# Altium footprint library WE-PPTI Push-Pull Transformers.PCBLIB: 2 footprints
Each footprint in its own frame and in the unit in brackets; x right, y up, seen from the top. Pads: shape width x height; smd on the part's side, far side on the other; paste and mask are expansions set on the pad; w line width, h text height; cw(c..) or ccw(c..) is an arc to the next point about the centre after c.
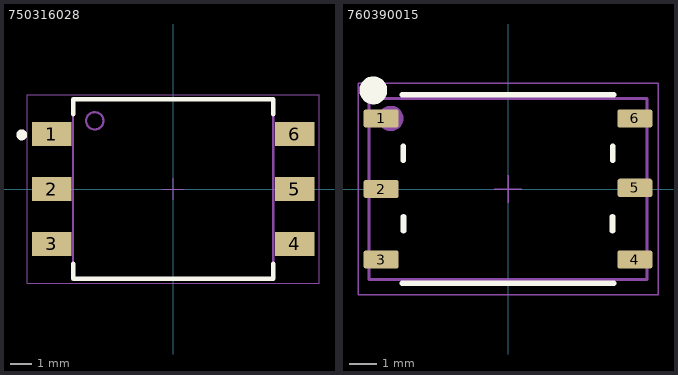
[diagram p0: the footprints below, top view; thin cyan lines are the x and y axes]

## 750316028 [mm] "Push-Pull Transformer, SMT, body 12.6 x 8.3 mm"
height 4.1
pads (6):
  rect 1.83x1.09 smd: 1(-5.62,2.54) 2(-5.62,0) 3(-5.62,-2.54) 4(5.62,-2.54) 5(5.62,0) 6(5.62,2.54)
Top Overlay:
  circle w0.25: c-7,2.5 r0.125
  lines w0.2: -4.625,-3.45 -4.625,-4.15 4.625,-4.15 4.625,-3.45 ; -4.625,3.45 -4.625,4.15 4.625,4.15 4.625,3.45
Top Assembly:
  circle w0.1: c-3.625,3.15 r0.4
  lines w0.1: -4.625,-4.15 -4.625,4.15 4.625,4.15 4.625,-4.15 -4.625,-4.15
Top Courtyard:
  lines w0.05: -6.735,-4.35 -6.735,4.35 6.735,4.35 6.735,-4.35 -6.735,-4.35
Top Designator:
  text ".Designator" at -7.598,5 h1.5
Top Component Center:
  lines w0.05: -0.5,0 0.5,0 ; 0,-0.5 0,0.5
3D body "Download_STP_250-1201 (rev1).STEP": height 3.98, standoff 0.01, extent -6.035,-4.015 6.035,4.015

## 760390015 [mm]
height 0.55
pads (6):
  rrect30% 1.27x0.66 smd: 1(-4.57,2.54) 2(-4.57,0) 3(-4.57,-2.54) 4(4.57,-2.54) 5(4.57,0.04) 6(4.57,2.54)
Top Overlay:
  circle w0.5: c-4.85,3.55 r0.25
  lines w0.2: -3.8,-3.4 3.8,-3.4 ; -3.8,3.4 3.8,3.4 ; -3.77,1.04 -3.77,1.54 ; -3.762,-1.5 -3.762,-1 ; 3.762,-1.5 3.762,-1 ; 3.77,1.04 3.77,1.54
Top Assembly:
  circle w0.457: c-4.22,2.54 r0.229
  lines w0.1: -5,-3.26 -5,3.26 5,3.26 5,-3.26 -5,-3.26
Top Courtyard:
  lines w0.05: -5.4,-3.8 5.4,-3.8 5.4,3.8 -5.4,3.8 -5.4,-3.8
Top Designator:
  text ".Designator" at -1.07,-0.06 h1
Top Component Center:
  lines w0.05: -0.5,0 0.5,0 ; 0,-0.5 0,0.5
3D body "250-1109 (rev1).STEP": height 4.06, standoff 0, extent -4.98,-3.23 4.98,3.25